# Altium integrated library PCA9306.IntLib: 1 symbol
Pins are listed as number, name and electrical type; pins without a type are passive.

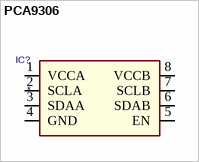
[diagram p0: symbol PCA9306]

## PCA9306
designator IC?
ID: PCA9306DP1,125; PDF: http://www.nxp.com/documents/data_sheet/PCA9306.pdf; BUY_LINK: http://www.digikey.com/product-detail/en/PCA9306DP1,125/568-4243-1-ND/1642417; PRICE: 0.78000
footprint MSOP8
pins: 1 VCCA, 2 SCLA, 3 SDAA, 4 GND, 5 EN, 6 SDAB, 7 SCLB, 8 VCCB